# Altium footprint library Mikeduino.PcbLib: 28 footprints (part 1 of 2)
Each footprint in its own frame and in the unit in brackets; x right, y up, seen from the top. Pads: shape width x height; smd on the part's side, far side on the other; paste and mask are expansions set on the pad; w line width, h text height; cw(c..) or ccw(c..) is an arc to the next point about the centre after c.
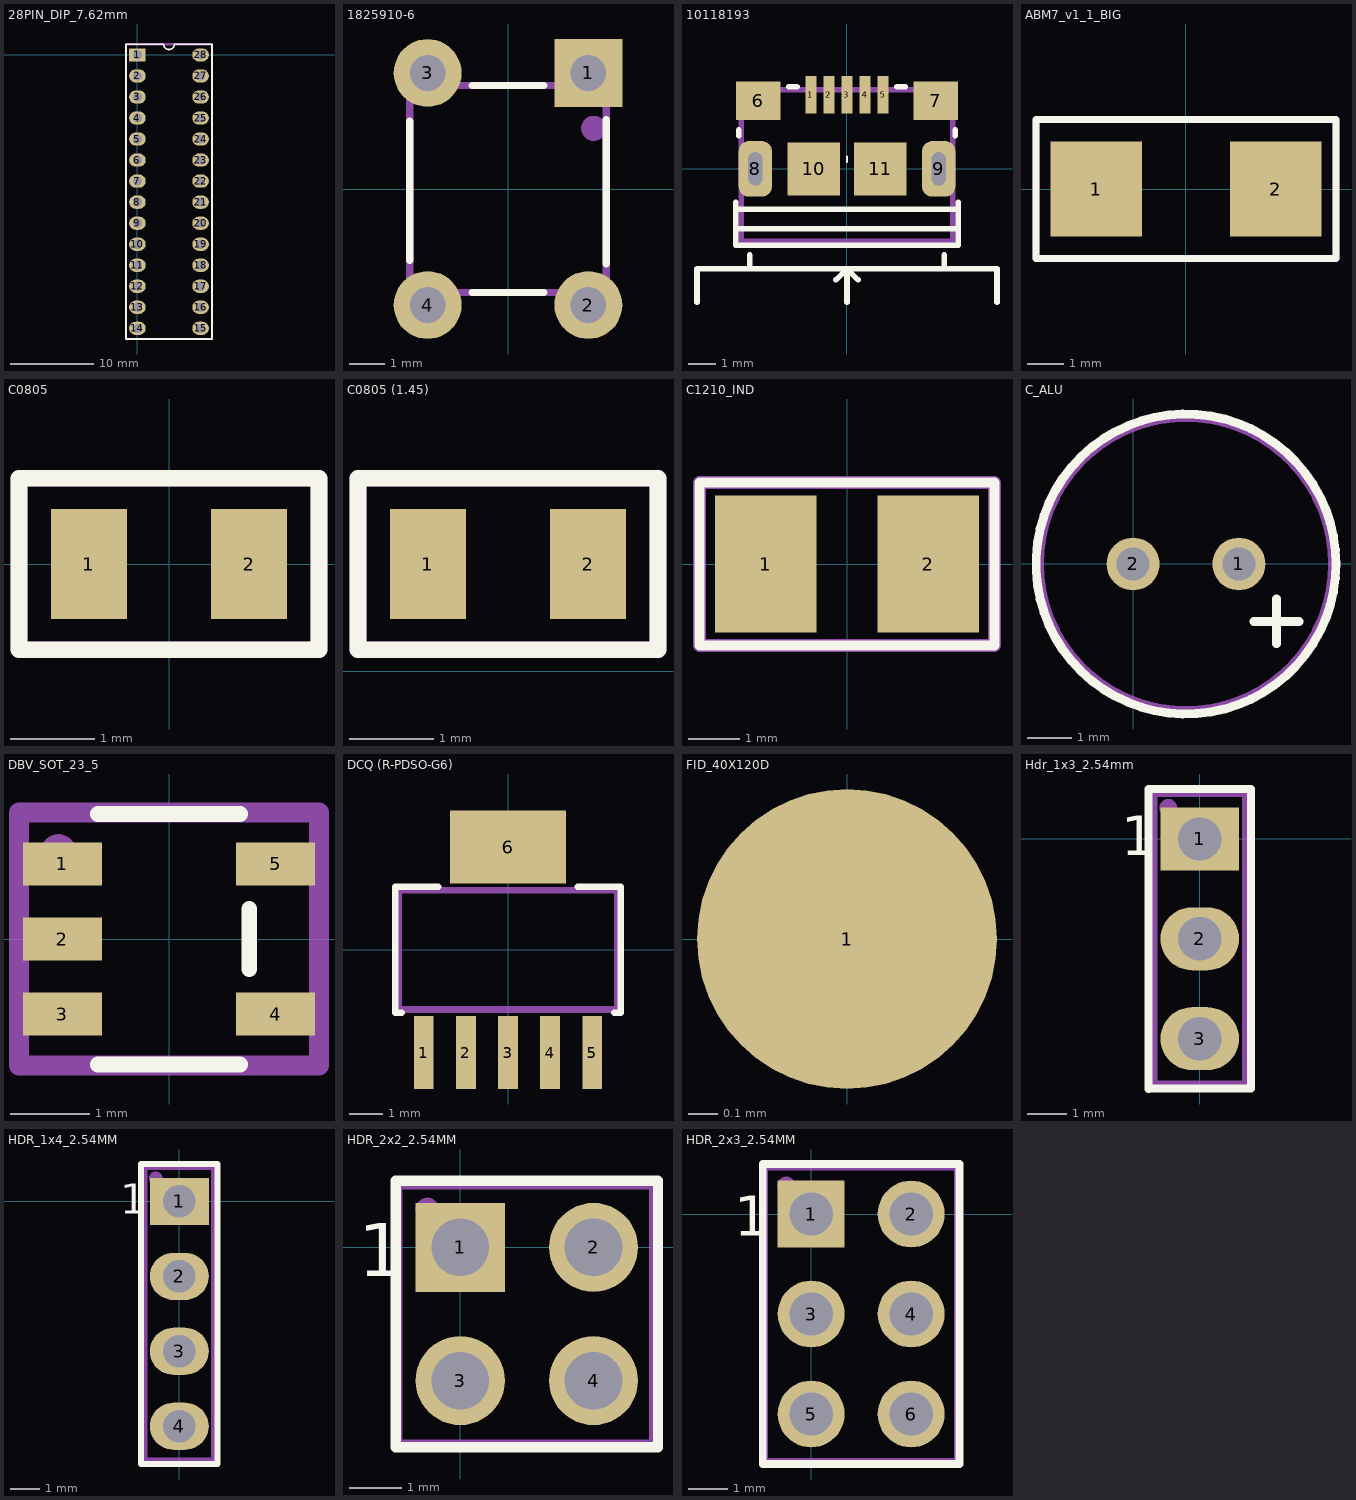
[diagram p0: the footprints below, top view; thin cyan lines are the x and y axes]

## 28_DIP_7.62mm_SOCKET [mm] "Creator MM"
3D body "dil_socket.stp": height 4.2, standoff -3.17, extent -1.24,-34.26 8.86,1.24

## 28PIN_DIP_7.62mm [mm]
pads (28):
  rect 2x1.6 hole 1.1: 1(0,0)
  oval 2x1.6 hole 1.1: 2(0,-2.54) 3(0,-5.08) 4(0,-7.62) 5(0,-10.16) 6(0,-12.7) 7(0,-15.24) 8(0,-17.78) 9(0,-20.32) 10(0,-22.86) 11(0,-25.4) 12(0,-27.94) 13(0,-30.48) 14(0,-33.02) 15(7.62,-33.02) 16(7.62,-30.48) 17(7.62,-27.94) 18(7.62,-25.4) 19(7.62,-22.86) 20(7.62,-20.32) 21(7.62,-17.78) 22(7.62,-15.24) 23(7.62,-12.7) 24(7.62,-10.16) 25(7.62,-7.62) 26(7.62,-5.08) 27(7.62,-2.54) 28(7.62,0)
Top Overlay:
  lines w0.2: -1.39,-34.31 9.01,-34.31 ; -1.39,-34.29 -1.39,1.27 ; -1.39,1.29 3.175,1.29 ccw(c3.81,1.29) 4.445,1.29 9.01,1.29 ; 9.01,-34.29 9.01,1.27
Mechanical 29:
  circle w0.5: c0,0 r0.237
  lines w0.254: -1.39,-34.31 -1.39,1.29 9.01,1.29 9.01,-34.31 -1.39,-34.31
  text ".Designator" at 5.2,-22.1 h3
3D body: height 0.25, standoff 0, extent 4.11,-16.51 4.11,-16.51
3D body "User Library-28 pin dip-1.step": height 7.55, standoff 1.33, extent -0.227,-34.46 7.647,1.481
3D body: height 0.25, standoff 0, extent -10.69,-23.51 -10.69,-23.51

## 1825910-6 [mm]
pads (4):
  rect 1.9x1.9 hole 1: 1(2.25,3.25)
  round 1.9 hole 1: 2(2.25,-3.25) 3(-2.25,3.25) 4(-2.25,-3.25)
Top Overlay:
  lines w0.2: -2.75,-2 -2.75,1.9 ; -1,-2.9 1,-2.9 ; -1,2.9 1,2.9 ; 2.75,-2.1 2.75,1.95
Mechanical 29:
  circle w0.5: c2.4,1.7 r0.1
  lines w0.2: -2.75,-2.9 2.75,-2.9 2.75,2.9 -2.75,2.9 -2.75,-2.9
  text ".Designator" at -2.5,-0.6 h1.6
3D body "FSM4JLH(1825910-5).step": height 5, standoff -3.51, extent -2.995,-3.898 2.995,3.9

## 10118193 [mm] "Creator MM"
height 3.1
pads (11):
  rect 0.4x1.35 smd mask+0.05: 1(-1.3,2.675) 2(-0.65,2.675) 3(0,2.675) 4(0.65,2.675) 5(1.3,2.675)
  rect 1.6x1.4 smd: 6(-3.2,2.45) 7(3.2,2.45)
  rrect60% 1.2x2 hole 0.5 slot 1.2 at 90 deg: 8(-3.3,0) 9(3.3,0)
  rect 1.9x1.9 smd paste-10: 10(-1.2,0) 11(1.2,0)
Top Overlay:
  lines w0.08: 0,0.25 0,0.45
  lines w0.2: -5.4,-4.8 -5.4,-3.6 5.4,-3.6 5.4,-4.8 ; -4,-2.15 4,-2.15 ; -4,-1.45 4,-1.45 ; -4,-1.2 -4,-2.75 4,-2.75 4,-1.2 ; -3.9,1.2 -3.9,1.4 ; -3.5,-3.6 -3.5,-3.1 ; -2.1,2.95 -1.8,2.95 ; -0.4,-4 0,-3.6 ; 0,-4.8 0,-3.6 ; 0.4,-4 0,-3.6 ; 1.8,2.95 2.1,2.95 ; 3.5,-3.6 3.5,-3.1 ; 3.9,1.2 3.9,1.4
Mechanical 29:
  lines w0.2: -3.8,-2.6 3.8,-2.6 3.8,2.85 -3.8,2.85 -3.8,-2.6
  text ".Designator" at -2,-0.7 h1.52
3D body "10118193.step": height 2.85, standoff -0.75, extent -3.929,-2.76 3.928,2.9

## ABM7_v1_1_BIG [mm]
pads (2):
  rect 2.5x2.6 smd: 1(-2.45,0) 2(2.45,0)
Top Overlay:
  lines w0.2: -4.1,-1.9 -4.1,1.9 4.1,1.9 4.1,-1.9 -4.1,-1.9
Mechanical 29:
  lines w0.2: -4.1,-1.9 4.1,-1.9 4.1,1.9 -4.1,1.9 -4.1,-1.9
  text ".Designator" at -2.1,-0.2 h1.52
3D body "ABM7.STEP": height 1.41, standoff 0.01, extent -2.997,-1.753 2.997,1.753
3D body: height 1.45, standoff 1.4, extent -2,-1.5 2,1.5

## C0805 [mm]
pads (2):
  rect 0.9x1.3 smd: 1(-0.95,0) 2(0.95,0)
Top Overlay:
  lines w0.2: -1.778,-1.016 -1.778,1.016 1.778,1.016 1.778,-1.016 -1.778,-1.016
Mechanical 29:
  lines w0.2: -1.778,-1.016 -1.778,1.016 1.778,1.016 1.778,-1.016 -1.778,-1.016
  text ".Designator" at -1.016,-0.254 h0.8
3D body "CAPC2012X95N EIA 0805.step": height 0.88, standoff -0.07, extent -1,-0.6 1,0.6

## C0805 (1.45) [mm]
pads (2):
  rect 0.9x1.3 smd: 1(6.67,1.27) 2(8.57,1.27)
Top Overlay:
  lines w0.2: 5.842,0.254 5.842,2.286 9.398,2.286 9.398,0.254 5.842,0.254
Mechanical 29:
  lines w0.2: 5.842,0.254 5.842,2.286 9.398,2.286 9.398,0.254 5.842,0.254
  text ".Designator" at 6.604,1.016 h0.6
3D body: height 1.25, standoff -1.25, extent 6.604,1.778 6.604,1.778
3D body "CAPC2012X145N EIA 0805.step": height 1.35, standoff -0.1, extent 6.62,0.67 8.62,1.87

## C1210_IND [mm] "INDUCTOR"
pads (2):
  rect 2x2.7 smd: 1(-1.6,0) 2(1.6,0)
Top Overlay:
  lines w0.2: -2.9,-1.6 2.9,-1.6 2.9,1.6 -2.9,1.6 -2.9,-1.6
Mechanical 29:
  lines w0.254: -2.9,-1.6 2.9,-1.6 2.9,1.6 -2.9,1.6 -2.9,-1.6
  text ".Designator" at -1.9,-0.9 h1
3D body "C1210.step": height 2.5, standoff 0, extent -1.6,-1.25 1.6,1.25

## C_ALU [mm]
pads (2):
  round 1.2 hole 0.75: 1(2.4,0) 2(0,0)
Top Overlay:
  circle w0.2: c1.2,0 r3.4
  lines w0.2: 2.742,-1.3 3.758,-1.3 ; 3.25,-1.808 3.25,-0.792
Mechanical 29:
  circle w0.254: c1.2,0 r3.35
  lines w0.2: 2.75,-1.3 3.75,-1.3 ; 3.25,-1.8 3.25,-0.8
  text ".Designator" at -1.25,-0.3 h1
3D body "User Library-CapAluRadial_D63H70P25.step": height 7, standoff -3, extent -1.951,-3.15 4.35,3.15

## DBV_SOT_23_5 [mm]
pads (5):
  rect 1x0.55 smd: 1(-1.35,0.95) 2(-1.35,0) 3(-1.35,-0.95) 4(1.35,-0.95) 5(1.35,0.95)
Top Overlay:
  lines w0.2: -0.9,-1.59 0.9,-1.59 ; -0.9,1.585 0.9,1.585 ; 1.016,-0.381 1.016,0.381
Mechanical 29:
  circle w0.254: c-1.4,1.1 r0.1
  lines w0.254: -1.9,-1.6 1.9,-1.6 1.9,1.6 -1.9,1.6 -1.9,-1.6
  text ".Designator" at 0.2,-1.2 h0.6
3D body "User Library-TPS79333DBVR.step": height 1.55, standoff -0.07, extent -1.513,-1.525 1.514,1.525

## DCQ (R-PDSO-G6) [mm] "Creator MM"
pads (6):
  rect 0.6x2.2 smd: 1(-2.54,-3.1) 2(-1.27,-3.1) 3(0,-3.1) 4(1.27,-3.1) 5(2.54,-3.1)
  rect 3.5x2.2 smd: 6(0,3.1)
Top Overlay:
  lines w0.2: -3.2,-1.9 -3.4,-1.9 -3.4,1.9 -2.1,1.9 ; 2.1,1.9 3.4,1.9 3.4,-1.9 3.2,-1.9
Mechanical 29:
  lines w0.2: -3.3,-1.8 3.3,-1.8 3.3,1.8 -3.3,1.8 -3.3,-1.8
  text ".Designator" at -2.5,-0.7 h1.5
3D body "TPS73701DCQ.step": height 1.8, standoff 0, extent -3.275,-3.63 3.275,3.63

## FID_40X120D [mil]
pads (1):
  round 40 smd paste-40 mask+40: 1(0,0)

## Hdr_1x3_2.54mm [mm] "Creator MM"
pads (3):
  rect 2x1.6 hole 1.1: 1(0,0)
  oval 2x1.6 hole 1.1: 2(0,-2.54) 3(0,-5.08)
Top Overlay:
  lines w0.2: -1.3,-6.36 -1.3,1.27 1.3,1.27 1.3,-6.3 ; -1.3,-6.35 1.3,-6.35
  text "1" at -2,-0.41 h1.02
Mechanical 29:
  circle w0.254: c-0.8,0.79 r0.1
  lines w0.254: -1.2,-6.27 1.2,-6.27 1.2,1.19 -1.2,1.19 -1.2,-6.27
  text ".Designator" at 0.7,-5.4 h1.52
3D body "77311-y18-03_asm.stp": height 8.4, standoff -3.1, extent -1.2,-6.15 1.21,1.07

## HDR_1x4_2.54MM [mm]
pads (4):
  rect 2x1.6 hole 1.1: 1(0,0)
  oval 2x1.6 hole 1.1: 2(0,-2.54) 3(0,-5.08) 4(0,-7.62)
Top Overlay:
  lines w0.2: -1.3,-8.9 1.3,-8.9 1.3,1.27 -1.3,1.27 -1.3,-8.9
  text "1" at -2,-0.41 h1.02
Mechanical 29:
  circle w0.254: c-0.8,0.79 r0.1
  lines w0.254: -1.2,-8.81 -1.2,1.19 1.2,1.19 1.2,-8.81 -1.2,-8.81
  text ".Designator" at 0.9,-8.41 h1.52
3D body "77311-118-04lf.stp": height 8.4, standoff -3.1, extent -1.2,-8.69 1.21,1.07

## HDR_2x2_2.54MM [mm] "Creator MM"
pads (4):
  rect 1.7x1.7 hole 1.1: 1(0,0)
  round 1.7 hole 1.1: 2(2.54,0) 3(0,-2.54) 4(2.54,-2.54)
Top Overlay:
  lines w0.2: -1.23,-3.81 -1.23,1.27 3.77,1.27 3.77,-3.81 -1.23,-3.81
  text "1" at -1.951,-0.551 h1.02
Mechanical 29:
  circle w0.254: c-0.63,0.72 r0.1
  lines w0.2: -1.2,-3.76 -1.2,1.2 3.7,1.2 3.7,-3.76 -1.2,-3.76
  text ".Designator" at 1.8,-3.3 h1.52
3D body "961204-6404-XX.stp": height 8.01, standoff -3.29, extent -1.23,-3.81 3.77,1.27

## HDR_2x3_2.54MM [mm]
pads (6):
  rect 1.7x1.7 hole 1.1: 1(0,0)
  round 1.7 hole 1.1: 2(2.54,0) 3(0,-2.54) 4(2.54,-2.54) 5(0,-5.08) 6(2.54,-5.08)
Top Overlay:
  lines w0.2: -1.23,-6.35 -1.23,1.27 3.77,1.27 3.77,-6.35 -1.23,-6.35
  text "1" at -1.951,-0.551 h1.02
Mechanical 29:
  circle w0.254: c-0.63,0.72 r0.1
  lines w0.2: -1.2,-6.3 -1.2,1.2 3.728,1.2 3.728,-6.3 -1.2,-6.3
  text ".Designator" at 1.8,-5.5 h1.52
3D body "961206-6404-XX.stp": height 8.01, standoff -3.29, extent -1.23,-6.35 3.77,1.27